# Altium schematic symbol library savr_symbols.SchLib: 9 symbols
Pins are listed as number, name and electrical type; pins without a type are passive.

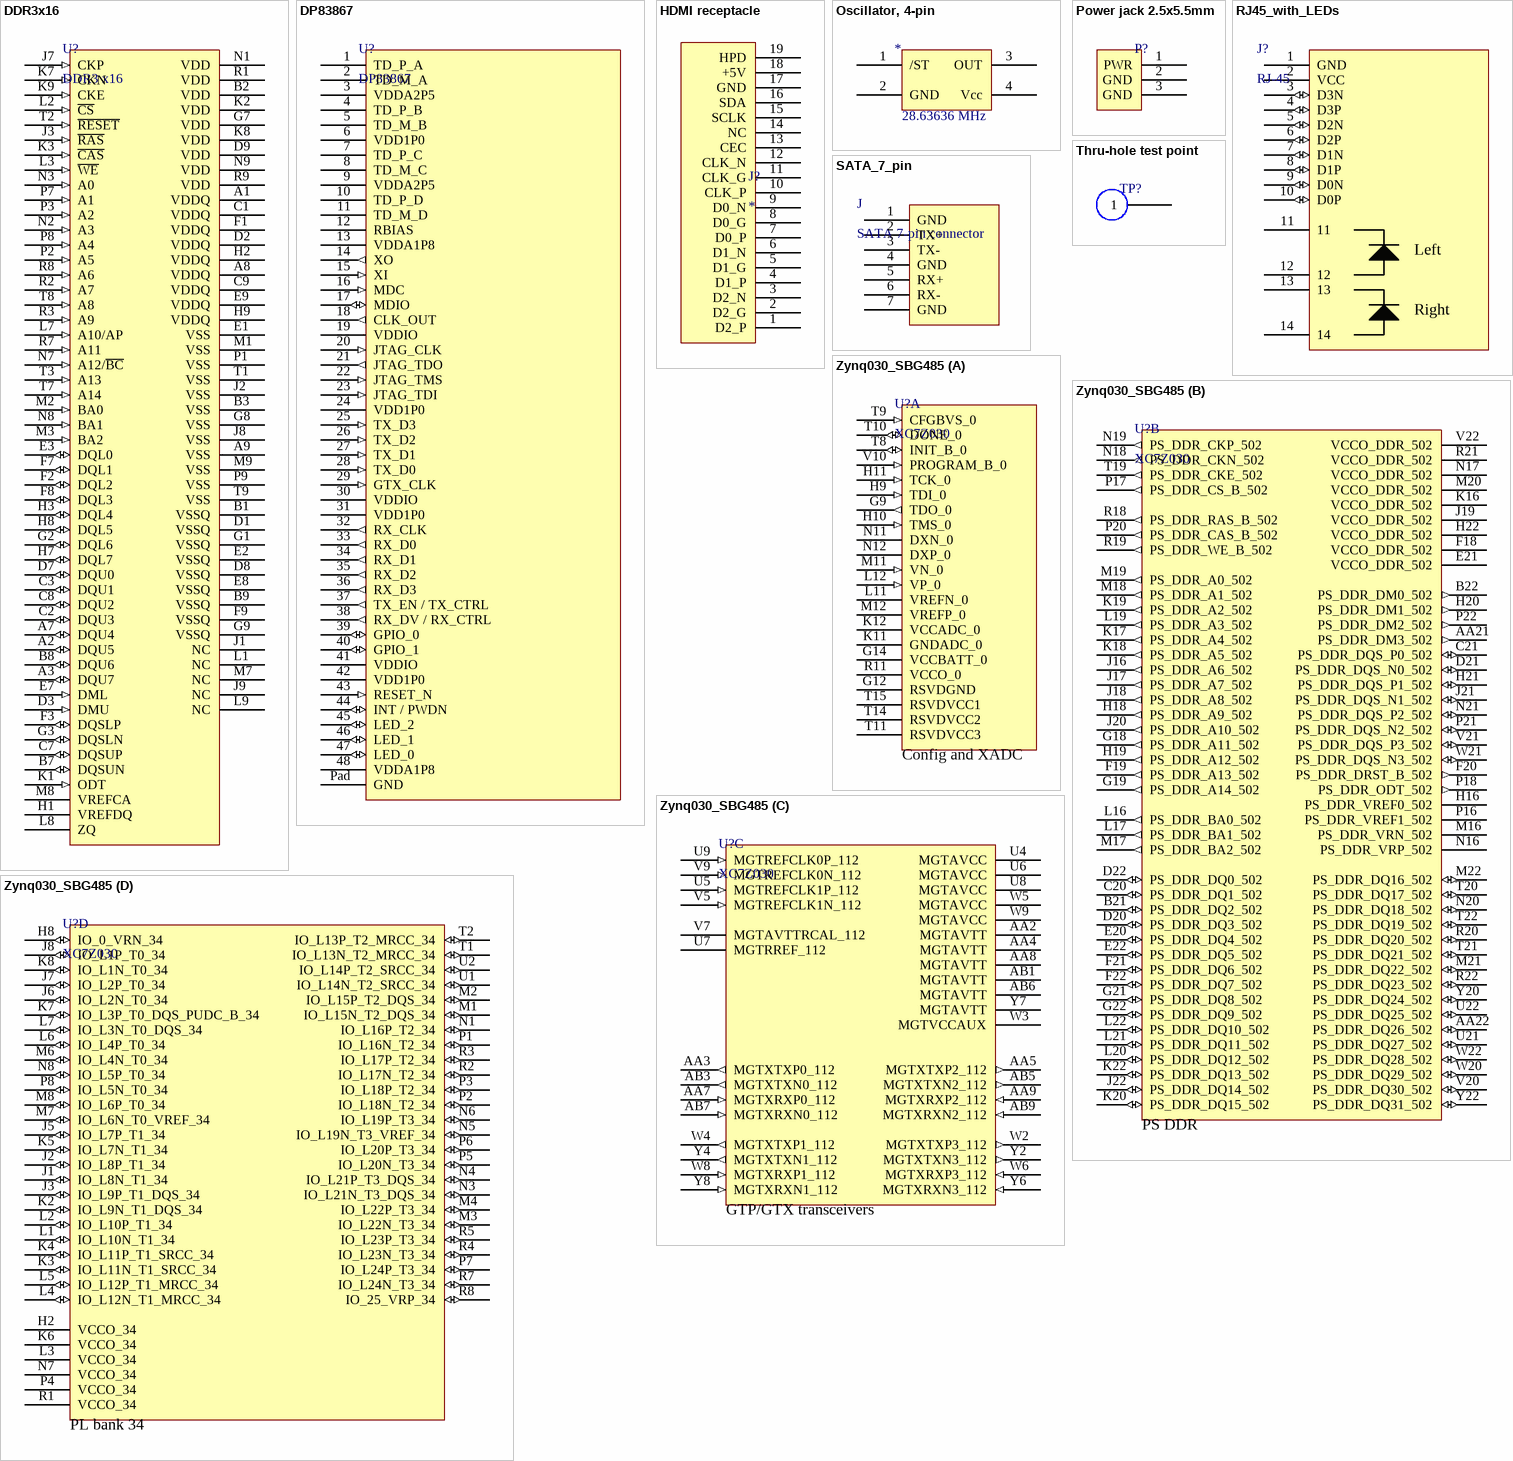
[diagram p0: symbols DDR3x16 to Zynq030_SBG485]

## DDR3x16
designator U?, comment DDR3 x16
16-bit DDR3 memory; Digikey: 1450-1394-ND
pins: A1 VDDQ (power), A2 DQU5 (io), A3 DQU7 (io), A7 DQU4 (io), A8 VDDQ (power), A9 VSS (power), B1 VSSQ (power), B2 VDD (power), B3 VSS (power), B7 DQSUN (io), B8 DQU6 (io), B9 VSSQ (power), C1 VDDQ (power), C2 DQU3 (io), C3 DQU1 (io), C7 DQSUP (io), C8 DQU2 (io), C9 VDDQ (power), D1 VSSQ (power), D2 VDDQ (power), D3 DMU (in), D7 DQU0 (io), D8 VSSQ (power), D9 VDD (power), E1 VSS (power), E2 VSSQ (power), E3 DQL0 (io), E7 DML (in), E8 VSSQ (power), E9 VDDQ (power), F1 VDDQ (power), F2 DQL2 (io), F3 DQSLP (io), F7 DQL1 (io), F8 DQL3 (io), F9 VSSQ (power), G1 VSSQ (power), G2 DQL6 (io), G3 DQSLN (io), G7 VDD (power), G8 VSS (power), G9 VSSQ (power), H1 VREFDQ, H2 VDDQ (power), H3 DQL4 (io), H7 DQL7 (io), H8 DQL5 (io), H9 VDDQ (power), J1 NC, J2 VSS (power), J3 ~{RAS} (in), J7 CKP (in), J8 VSS (power), J9 NC, K1 ODT (in), K2 VDD (power), K3 ~{CAS} (in), K7 CKN (in), K8 VDD (power), K9 CKE (in), L1 NC, L2 ~{CS} (in), L3 ~{WE} (in), L7 A10/AP (in), L8 ZQ, L9 NC, M1 VSS (power), M2 BA0 (in), M3 BA2 (in), M7 NC, M8 VREFCA, M9 VSS (power), N1 VDD (power), N2 A3 (in), N3 A0 (in), N7 A12/~{BC} (in), N8 BA1 (in), N9 VDD (power), P1 VSS (power), P2 A5 (in), P3 A2 (in), P7 A1 (in), P8 A4 (in), P9 VSS (power), R1 VDD (power), R2 A7 (in), R3 A9 (in), R7 A11 (in), R8 A6 (in), R9 VDD (power), T1 VSS (power), T2 ~{RESET} (in), T3 A13 (in), T7 A14 (in), T8 A8 (in), T9 VSS (power)

## DP83867
designator U?
GMII/RGMII Ethernet PHY; Digikey: 296-51057-1-ND
pins: 1 TD_P_A, 2 TD_M_A, 3 VDDA2P5 (power), 4 TD_P_B, 5 TD_M_B, 6 VDD1P0 (power), 7 TD_P_C, 8 TD_M_C, 9 VDDA2P5 (power), 10 TD_P_D, 11 TD_M_D, 12 RBIAS, 13 VDDA1P8 (power), 14 XO (out), 15 XI (in), 16 MDC (in), 17 MDIO (io), 18 CLK_OUT (out), 19 VDDIO (power), 20 JTAG_CLK (in), 21 JTAG_TDO (out), 22 JTAG_TMS (in), 23 JTAG_TDI (in), 24 VDD1P0 (power), 25 TX_D3 (in), 26 TX_D2 (in), 27 TX_D1 (in), 28 TX_D0 (in), 29 GTX_CLK (in), 30 VDDIO (power), 31 VDD1P0 (power), 32 RX_CLK (out), 33 RX_D0 (out), 34 RX_D1 (out), 35 RX_D2 (out), 36 RX_D3 (out), 37 TX_EN / TX_CTRL (out), 38 RX_DV / RX_CTRL (out), 39 GPIO_0 (io), 40 GPIO_1 (io), 41 VDDIO (power), 42 VDD1P0 (power), 43 RESET_N (in), 44 INT / PWDN (io), 45 LED_2 (io), 46 LED_1 (io), 47 LED_0 (io), 48 VDDA1P8 (power), Pad GND (power)

## HDMI receptacle
designator J?
HDMI female connector receptacle
footprint HDMI_A (HDMI A Receptacle)
pins: 1 D2_P, 2 D2_G, 3 D2_N, 4 D1_P, 5 D1_G, 6 D1_N, 7 D0_P, 8 D0_G, 9 D0_N, 10 CLK_P, 11 CLK_G, 12 CLK_N, 13 CEC, 14 NC, 15 SCLK, 16 SDA, 17 GND, 18 +5V, 19 HPD

## Oscillator, 4-pin
designator *  Frequency: 28.63636 MHz  (hidden comment: *)
Oscillator with standby function, 2.5 x 2.0 x 0.8 mm
footprint OSC_SMD (Oscillator, 4 pin)
pins: 1 /ST, 2 GND, 3 OUT, 4 Vcc

## Power jack 2.5x5.5mm
designator P?  (value not drawn)
CONN PWR JACK 2.5x5.5MM SOLDER; DigiKey: SC237-ND
footprint CONN PWR JACK (CONN PWR JACK 2.5x5.5MM SOLDER)
pins: 1 PWR (power), 2 GND, 3 GND

## RJ45_with_LEDs
designator J?, comment RJ-45
RJ-45 with magnetics and LEDs; Digikey: WM16799-ND
pins: 1 GND (power), 2 VCC (power), 3 D3N (io), 4 D3P (io), 5 D2N (io), 6 D2P (io), 7 D1N (io), 8 D1P (io), 9 D0N (io), 10 D0P (io), 11, 12, 13, 14
text: Left; Right

## SATA_7_pin
designator J, comment SATA 7-pin connector
Digikey: WM4279CT-ND
pins: 1 GND (power), 2 TX+, 3 TX-, 4 GND (power), 5 RX+, 6 RX-, 7 GND (power)

## Thru-hole test point
designator TP?, comment Test point  (value not drawn)
footprint TEST_POINT - thicker (2mm header hole, thicker)
pins: 1

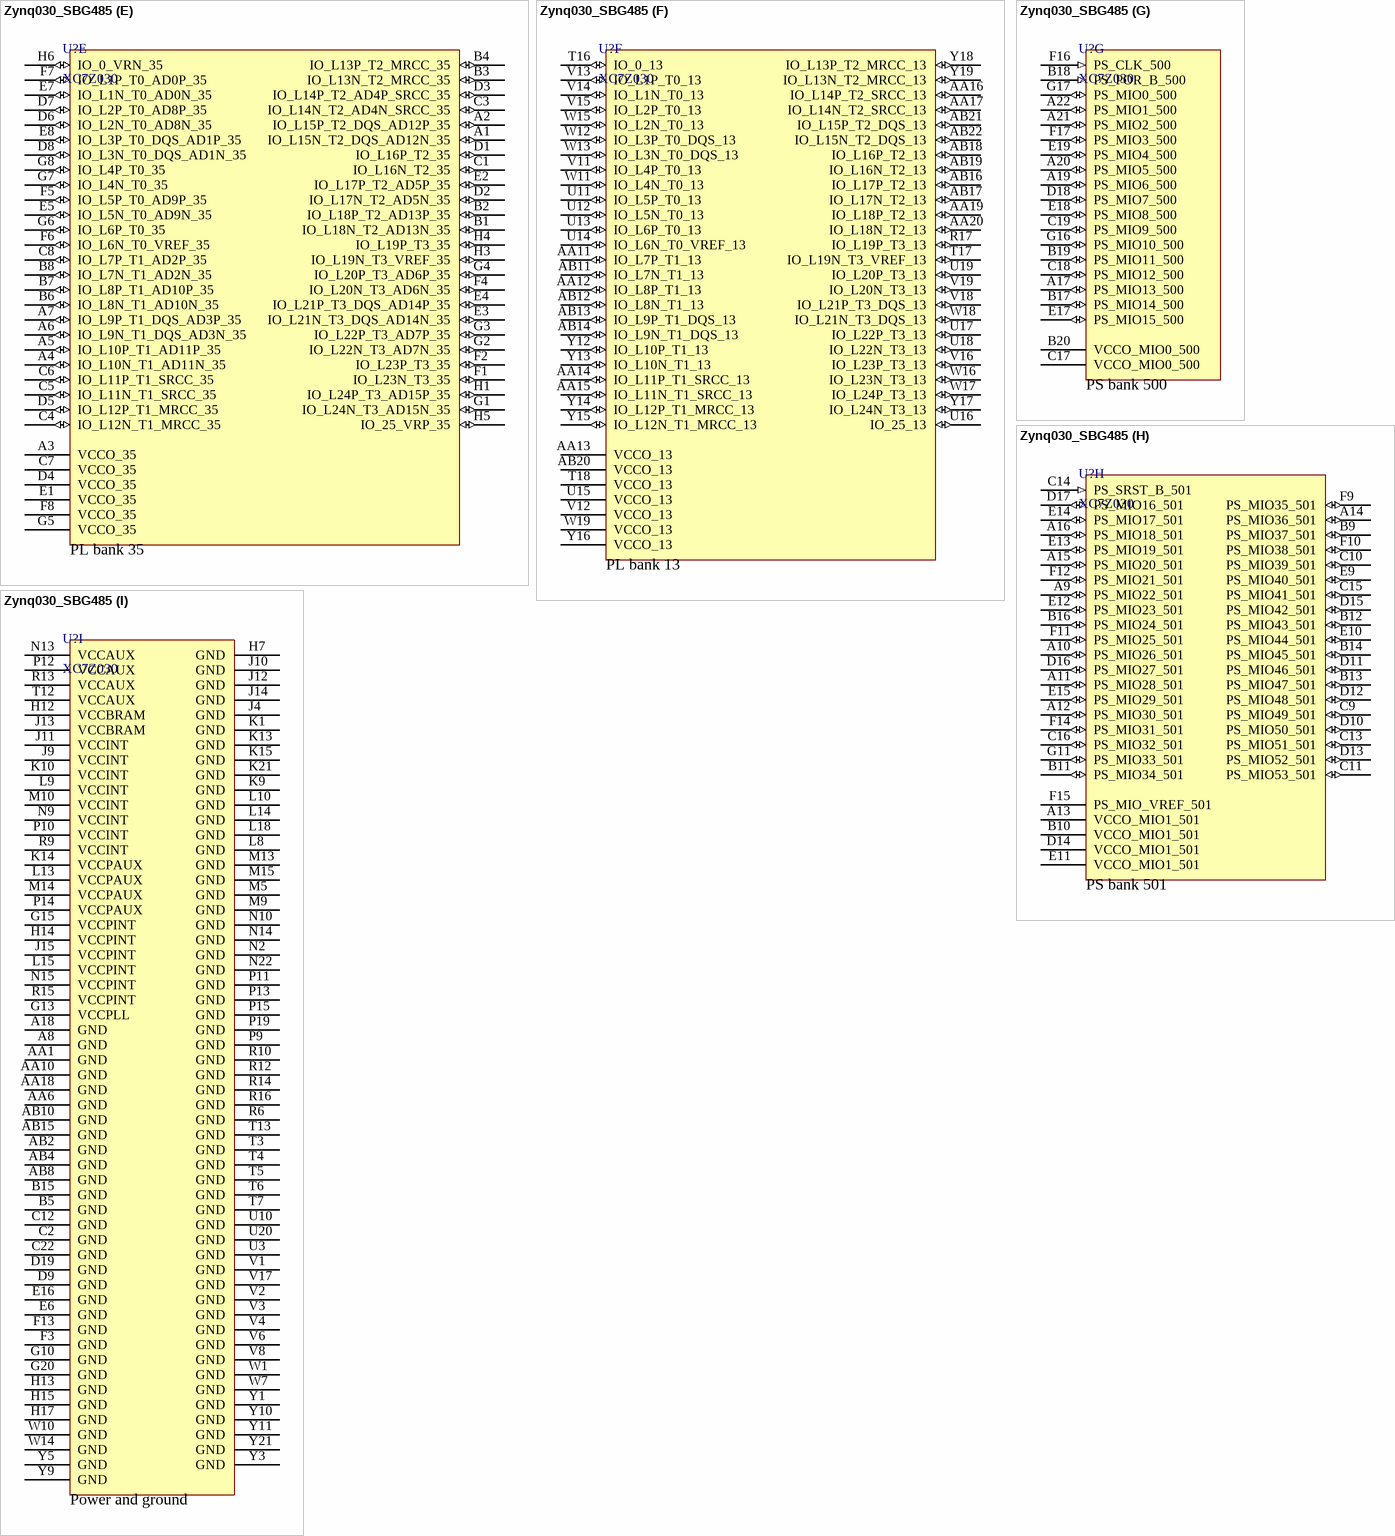
[diagram p1: symbol Zynq030_SBG485]

## Zynq030_SBG485
designator U?, comment XC7Z030
Xilinx Zynq 7Z030 in SBG485 package; Digikey: 122-2190-ND
part A pins: G9 TDO_0 (out), G12 RSVDGND (power), G14 VCCBATT_0 (power), H9 TDI_0 (in), H10 TMS_0 (in), H11 TCK_0 (in), K11 GNDADC_0 (power), K12 VCCADC_0 (power), L11 VREFN_0, L12 VP_0 (in), M11 VN_0 (in), M12 VREFP_0, N11 DXN_0, N12 DXP_0, R11 VCCO_0 (power), T8 INIT_B_0 (io), T9 CFGBVS_0 (in), T10 DONE_0 (io), T11 RSVDVCC3 (power), T14 RSVDVCC2 (power), T15 RSVDVCC1 (power), V10 PROGRAM_B_0 (in)
part B pins: AA21 PS_DDR_DM3_502 (out), AA22 PS_DDR_DQ26_502 (io), B21 PS_DDR_DQ2_502 (io), B22 PS_DDR_DM0_502 (out), C20 PS_DDR_DQ1_502 (io), C21 PS_DDR_DQS_P0_502 (io), D20 PS_DDR_DQ3_502 (io), D21 PS_DDR_DQS_N0_502 (io), D22 PS_DDR_DQ0_502 (io), E20 PS_DDR_DQ4_502 (io), E21 VCCO_DDR_502 (power), E22 PS_DDR_DQ5_502 (io), F18 VCCO_DDR_502 (power), F19 PS_DDR_A13_502 (out), F20 PS_DDR_DRST_B_502 (out), F21 PS_DDR_DQ6_502 (io), F22 PS_DDR_DQ7_502 (io), G18 PS_DDR_A11_502 (out), G19 PS_DDR_A14_502 (out), G21 PS_DDR_DQ8_502 (io), G22 PS_DDR_DQ9_502 (io), H16 PS_DDR_VREF0_502, H18 PS_DDR_A9_502 (out), H19 PS_DDR_A12_502 (out), H20 PS_DDR_DM1_502 (out), H21 PS_DDR_DQS_P1_502 (io), H22 VCCO_DDR_502 (power), J16 PS_DDR_A6_502 (out), J17 PS_DDR_A7_502 (out), J18 PS_DDR_A8_502 (out), J19 VCCO_DDR_502 (power), J20 PS_DDR_A10_502 (out), J21 PS_DDR_DQS_N1_502 (io), J22 PS_DDR_DQ14_502 (io), K16 VCCO_DDR_502 (power), K17 PS_DDR_A4_502 (out), K18 PS_DDR_A5_502 (out), K19 PS_DDR_A2_502 (out), K20 PS_DDR_DQ15_502 (io), K22 PS_DDR_DQ13_502 (io), L16 PS_DDR_BA0_502 (out), L17 PS_DDR_BA1_502 (out), L19 PS_DDR_A3_502 (out), L20 PS_DDR_DQ12_502 (io), L21 PS_DDR_DQ11_502 (io), L22 PS_DDR_DQ10_502 (io), M16 PS_DDR_VRN_502, M17 PS_DDR_BA2_502 (out), M18 PS_DDR_A1_502 (out), M19 PS_DDR_A0_502 (out), M20 VCCO_DDR_502 (power), M21 PS_DDR_DQ22_502 (io), M22 PS_DDR_DQ16_502 (io), N16 PS_DDR_VRP_502, N17 VCCO_DDR_502 (power), N18 PS_DDR_CKN_502 (out), N19 PS_DDR_CKP_502 (out), N20 PS_DDR_DQ18_502 (io), N21 PS_DDR_DQS_P2_502 (io), P16 PS_DDR_VREF1_502, P17 PS_DDR_CS_B_502 (out), P18 PS_DDR_ODT_502 (out), P20 PS_DDR_CAS_B_502 (out), P21 PS_DDR_DQS_N2_502 (io), P22 PS_DDR_DM2_502 (out), R18 PS_DDR_RAS_B_502 (out), R19 PS_DDR_WE_B_502 (out), R20 PS_DDR_DQ20_502 (io), R21 VCCO_DDR_502 (power), R22 PS_DDR_DQ23_502 (io), T19 PS_DDR_CKE_502 (out), T20 PS_DDR_DQ17_502 (io), T21 PS_DDR_DQ21_502 (io), T22 PS_DDR_DQ19_502 (io), U21 PS_DDR_DQ27_502 (io), U22 PS_DDR_DQ25_502 (io), V20 PS_DDR_DQ30_502 (io), V21 PS_DDR_DQS_P3_502 (io), V22 VCCO_DDR_502 (power), W20 PS_DDR_DQ29_502 (io), W21 PS_DDR_DQS_N3_502 (io), W22 PS_DDR_DQ28_502 (io), Y20 PS_DDR_DQ24_502 (io), Y22 PS_DDR_DQ31_502 (io)
part C pins: AA2 MGTAVTT (power), AA3 MGTXTXP0_112 (out), AA4 MGTAVTT (power), AA5 MGTXTXP2_112 (out), AA7 MGTXRXP0_112 (in), AA8 MGTAVTT (power), AA9 MGTXRXP2_112 (in), AB1 MGTAVTT (power), AB3 MGTXTXN0_112 (out), AB5 MGTXTXN2_112 (out), AB6 MGTAVTT (power), AB7 MGTXRXN0_112 (in), AB9 MGTXRXN2_112 (in), U4 MGTAVCC (power), U5 MGTREFCLK1P_112 (in), U6 MGTAVCC (power), U7 MGTRREF_112, U8 MGTAVCC (power), U9 MGTREFCLK0P_112 (in), V5 MGTREFCLK1N_112 (in), V7 MGTAVTTRCAL_112, V9 MGTREFCLK0N_112 (in), W2 MGTXTXP3_112 (out), W3 MGTVCCAUX (power), W4 MGTXTXP1_112 (out), W5 MGTAVCC (power), W6 MGTXRXP3_112 (in), W8 MGTXRXP1_112 (in), W9 MGTAVCC (power), Y2 MGTXTXN3_112 (out), Y4 MGTXTXN1_112 (out), Y6 MGTXRXN3_112 (in), Y7 MGTAVTT (power), Y8 MGTXRXN1_112 (in)
part D pins: H2 VCCO_34 (power), H8 IO_0_VRN_34 (io), J1 IO_L8N_T1_34 (io), J2 IO_L8P_T1_34 (io), J3 IO_L9P_T1_DQS_34 (io), J5 IO_L7P_T1_34 (io), J6 IO_L2N_T0_34 (io), J7 IO_L2P_T0_34 (io), J8 IO_L1P_T0_34 (io), K2 IO_L9N_T1_DQS_34 (io), K3 IO_L11N_T1_SRCC_34 (io), K4 IO_L11P_T1_SRCC_34 (io), K5 IO_L7N_T1_34 (io), K6 VCCO_34 (power), K7 IO_L3P_T0_DQS_PUDC_B_34 (io), K8 IO_L1N_T0_34 (io), L1 IO_L10N_T1_34 (io), L2 IO_L10P_T1_34 (io), L3 VCCO_34 (power), L4 IO_L12N_T1_MRCC_34 (io), L5 IO_L12P_T1_MRCC_34 (io), L6 IO_L4P_T0_34 (io), L7 IO_L3N_T0_DQS_34 (io), M1 IO_L15N_T2_DQS_34 (io), M2 IO_L15P_T2_DQS_34 (io), M3 IO_L22N_T3_34 (io), M4 IO_L22P_T3_34 (io), M6 IO_L4N_T0_34 (io), M7 IO_L6N_T0_VREF_34 (io), M8 IO_L6P_T0_34 (io), N1 IO_L16P_T2_34 (io), N3 IO_L21N_T3_DQS_34 (io), N4 IO_L21P_T3_DQS_34 (io), N5 IO_L19N_T3_VREF_34 (io), N6 IO_L19P_T3_34 (io), N7 VCCO_34 (power), N8 IO_L5P_T0_34 (io), P1 IO_L16N_T2_34 (io), P2 IO_L18N_T2_34 (io), P3 IO_L18P_T2_34 (io), P4 VCCO_34 (power), P5 IO_L20N_T3_34 (io), P6 IO_L20P_T3_34 (io), P7 IO_L24P_T3_34 (io), P8 IO_L5N_T0_34 (io), R1 VCCO_34 (power), R2 IO_L17N_T2_34 (io), R3 IO_L17P_T2_34 (io), R4 IO_L23N_T3_34 (io), R5 IO_L23P_T3_34 (io), R7 IO_L24N_T3_34 (io), R8 IO_25_VRP_34 (io), T1 IO_L13N_T2_MRCC_34 (io), T2 IO_L13P_T2_MRCC_34 (io), U1 IO_L14N_T2_SRCC_34 (io), U2 IO_L14P_T2_SRCC_34 (io)
part E pins: A1 IO_L15N_T2_DQS_AD12N_35 (io), A2 IO_L15P_T2_DQS_AD12P_35 (io), A3 VCCO_35 (power), A4 IO_L10N_T1_AD11N_35 (io), A5 IO_L10P_T1_AD11P_35 (io), A6 IO_L9N_T1_DQS_AD3N_35 (io), A7 IO_L9P_T1_DQS_AD3P_35 (io), B1 IO_L18N_T2_AD13N_35 (io), B2 IO_L18P_T2_AD13P_35 (io), B3 IO_L13N_T2_MRCC_35 (io), B4 IO_L13P_T2_MRCC_35 (io), B6 IO_L8N_T1_AD10N_35 (io), B7 IO_L8P_T1_AD10P_35 (io), B8 IO_L7N_T1_AD2N_35 (io), C1 IO_L16N_T2_35 (io), C3 IO_L14N_T2_AD4N_SRCC_35 (io), C4 IO_L12N_T1_MRCC_35 (io), C5 IO_L11N_T1_SRCC_35 (io), C6 IO_L11P_T1_SRCC_35 (io), C7 VCCO_35 (power), C8 IO_L7P_T1_AD2P_35 (io), D1 IO_L16P_T2_35 (io), D2 IO_L17N_T2_AD5N_35 (io), D3 IO_L14P_T2_AD4P_SRCC_35 (io), D4 VCCO_35 (power), D5 IO_L12P_T1_MRCC_35 (io), D6 IO_L2N_T0_AD8N_35 (io), D7 IO_L2P_T0_AD8P_35 (io), D8 IO_L3N_T0_DQS_AD1N_35 (io), E1 VCCO_35 (power), E2 IO_L17P_T2_AD5P_35 (io), E3 IO_L21N_T3_DQS_AD14N_35 (io), E4 IO_L21P_T3_DQS_AD14P_35 (io), E5 IO_L5N_T0_AD9N_35 (io), E7 IO_L1N_T0_AD0N_35 (io), E8 IO_L3P_T0_DQS_AD1P_35 (io), F1 IO_L23N_T3_35 (io), F2 IO_L23P_T3_35 (io), F4 IO_L20N_T3_AD6N_35 (io), F5 IO_L5P_T0_AD9P_35 (io), F6 IO_L6N_T0_VREF_35 (io), F7 IO_L1P_T0_AD0P_35 (io), F8 VCCO_35 (power), G1 IO_L24N_T3_AD15N_35 (io), G2 IO_L22N_T3_AD7N_35 (io), G3 IO_L22P_T3_AD7P_35 (io), G4 IO_L20P_T3_AD6P_35 (io), G5 VCCO_35 (power), G6 IO_L6P_T0_35 (io), G7 IO_L4N_T0_35 (io), G8 IO_L4P_T0_35 (io), H1 IO_L24P_T3_AD15P_35 (io), H3 IO_L19N_T3_VREF_35 (io), H4 IO_L19P_T3_35 (io), H5 IO_25_VRP_35 (io), H6 IO_0_VRN_35 (io)
part F pins: AA11 IO_L7P_T1_13 (io), AA12 IO_L8P_T1_13 (io), AA13 VCCO_13 (power), AA14 IO_L11P_T1_SRCC_13 (io), AA15 IO_L11N_T1_SRCC_13 (io), AA16 IO_L14P_T2_SRCC_13 (io), AA17 IO_L14N_T2_SRCC_13 (io), AA19 IO_L18P_T2_13 (io), AA20 IO_L18N_T2_13 (io), AB11 IO_L7N_T1_13 (io), AB12 IO_L8N_T1_13 (io), AB13 IO_L9P_T1_DQS_13 (io), AB14 IO_L9N_T1_DQS_13 (io), AB16 IO_L17P_T2_13 (io), AB17 IO_L17N_T2_13 (io), AB18 IO_L16P_T2_13 (io), AB19 IO_L16N_T2_13 (io), AB20 VCCO_13 (power), AB21 IO_L15P_T2_DQS_13 (io), AB22 IO_L15N_T2_DQS_13 (io), R17 IO_L19P_T3_13 (io), T16 IO_0_13 (io), T17 IO_L19N_T3_VREF_13 (io), T18 VCCO_13 (power), U11 IO_L5P_T0_13 (io), U12 IO_L5N_T0_13 (io), U13 IO_L6P_T0_13 (io), U14 IO_L6N_T0_VREF_13 (io), U15 VCCO_13 (power), U16 IO_25_13 (io), U17 IO_L22P_T3_13 (io), U18 IO_L22N_T3_13 (io), U19 IO_L20P_T3_13 (io), V11 IO_L4P_T0_13 (io), V12 VCCO_13 (power), V13 IO_L1P_T0_13 (io), V14 IO_L1N_T0_13 (io), V15 IO_L2P_T0_13 (io), V16 IO_L23P_T3_13 (io), V18 IO_L21P_T3_DQS_13 (io), V19 IO_L20N_T3_13 (io), W11 IO_L4N_T0_13 (io), W12 IO_L3P_T0_DQS_13 (io), W13 IO_L3N_T0_DQS_13 (io), W15 IO_L2N_T0_13 (io), W16 IO_L23N_T3_13 (io), W17 IO_L24P_T3_13 (io), W18 IO_L21N_T3_DQS_13 (io), W19 VCCO_13 (power), Y12 IO_L10P_T1_13 (io), Y13 IO_L10N_T1_13 (io), Y14 IO_L12P_T1_MRCC_13 (io), Y15 IO_L12N_T1_MRCC_13 (io), Y16 VCCO_13 (power), Y17 IO_L24N_T3_13 (io), Y18 IO_L13P_T2_MRCC_13 (io), Y19 IO_L13N_T2_MRCC_13 (io)
part G pins: A17 PS_MIO13_500 (io), A19 PS_MIO6_500 (io), A20 PS_MIO5_500 (io), A21 PS_MIO2_500 (io), A22 PS_MIO1_500 (io), B17 PS_MIO14_500 (io), B18 PS_POR_B_500 (in), B19 PS_MIO11_500 (io), B20 VCCO_MIO0_500 (power), C17 VCCO_MIO0_500 (power), C18 PS_MIO12_500 (io), C19 PS_MIO9_500 (io), D18 PS_MIO7_500 (io), E17 PS_MIO15_500 (io), E18 PS_MIO8_500 (io), E19 PS_MIO4_500 (io), F16 PS_CLK_500 (in), F17 PS_MIO3_500 (io), G16 PS_MIO10_500 (io), G17 PS_MIO0_500 (io)
part H pins: A9 PS_MIO22_501 (io), A10 PS_MIO26_501 (io), A11 PS_MIO28_501 (io), A12 PS_MIO30_501 (io), A13 VCCO_MIO1_501 (power), A14 PS_MIO36_501 (io), A15 PS_MIO20_501 (io), A16 PS_MIO18_501 (io), B9 PS_MIO37_501 (io), B10 VCCO_MIO1_501 (power), B11 PS_MIO34_501 (io), B12 PS_MIO43_501 (io), B13 PS_MIO47_501 (io), B14 PS_MIO45_501 (io), B16 PS_MIO24_501 (io), C9 PS_MIO49_501 (io), C10 PS_MIO39_501 (io), C11 PS_MIO53_501 (io), C13 PS_MIO51_501 (io), C14 PS_SRST_B_501 (in), C15 PS_MIO41_501 (io), C16 PS_MIO32_501 (io), D10 PS_MIO50_501 (io), D11 PS_MIO46_501 (io), D12 PS_MIO48_501 (io), D13 PS_MIO52_501 (io), D14 VCCO_MIO1_501 (power), D15 PS_MIO42_501 (io), D16 PS_MIO27_501 (io), D17 PS_MIO16_501 (io), E9 PS_MIO40_501 (io), E10 PS_MIO44_501 (io), E11 VCCO_MIO1_501 (power), E12 PS_MIO23_501 (io), E13 PS_MIO19_501 (io), E14 PS_MIO17_501 (io), E15 PS_MIO29_501 (io), F9 PS_MIO35_501 (io), F10 PS_MIO38_501 (io), F11 PS_MIO25_501 (io), F12 PS_MIO21_501 (io), F14 PS_MIO31_501 (io), F15 PS_MIO_VREF_501, G11 PS_MIO33_501 (io)
part I pins: A8 GND (power), A18 GND (power), AA1 GND (power), AA6 GND (power), AA10 GND (power), AA18 GND (power), AB2 GND (power), AB4 GND (power), AB8 GND (power), AB10 GND (power), AB15 GND (power), B5 GND (power), B15 GND (power), C2 GND (power), C12 GND (power), C22 GND (power), D9 GND (power), D19 GND (power), E6 GND (power), E16 GND (power), F3 GND (power), F13 GND (power), G10 GND (power), G13 VCCPLL (power), G15 VCCPINT (power), G20 GND (power), H7 GND (power), H12 VCCBRAM (power), H13 GND (power), H14 VCCPINT (power), H15 GND (power), H17 GND (power), J4 GND (power), J9 VCCINT (power), J10 GND (power), J11 VCCINT (power), J12 GND (power), J13 VCCBRAM (power), J14 GND (power), J15 VCCPINT (power), K1 GND (power), K9 GND (power), K10 VCCINT (power), K13 GND (power), K14 VCCPAUX (power), K15 GND (power), K21 GND (power), L8 GND (power), L9 VCCINT (power), L10 GND (power), L13 VCCPAUX (power), L14 GND (power), L15 VCCPINT (power), L18 GND (power), M5 GND (power), M9 GND (power), M10 VCCINT (power), M13 GND (power), M14 VCCPAUX (power), M15 GND (power), N2 GND (power), N9 VCCINT (power), N10 GND (power), N13 VCCAUX (power), N14 GND (power), N15 VCCPINT (power), N22 GND (power), P9 GND (power), P10 VCCINT (power), P11 GND (power), P12 VCCAUX (power), P13 GND (power), P14 VCCPAUX (power), P15 GND (power), P19 GND (power), R6 GND (power), R9 VCCINT (power), R10 GND (power), R12 GND (power), R13 VCCAUX (power), R14 GND (power), R15 VCCPINT (power), R16 GND (power), T3 GND (power), T4 GND (power), T5 GND (power), T6 GND (power), T7 GND (power), T12 VCCAUX (power), T13 GND (power), U3 GND (power), U10 GND (power), U20 GND (power), V1 GND (power), V2 GND (power), V3 GND (power), V4 GND (power), V6 GND (power), V8 GND (power), V17 GND (power), W1 GND (power), W7 GND (power), W10 GND (power), W14 GND (power), Y1 GND (power), Y3 GND (power), Y5 GND (power), Y9 GND (power), Y10 GND (power), Y11 GND (power), Y21 GND (power)
part A text: Config and XADC
part B text: PS DDR
part C text: GTP/GTX transceivers
part D text: PL bank 34
part E text: PL bank 35
part F text: PL bank 13
part G text: PS bank 500
part H text: PS bank 501
part I text: Power and ground